# EAGLE library part EEPROM (library MOTO_LIB)
I2C EE PROM, 8 pin
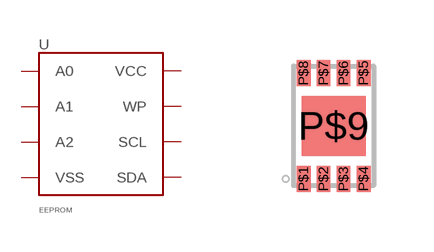
[diagram p10: symbol with the pads of DFN-8; footprint DFN-8]

Designator prefix -

## EEPROMDFN8 (MPN: BR24G16NUX-3; SUPPLIER: ROHM)  [DFN-8]
P$1  A0  in
P$2  A1  in
P$3  A2  in
P$4  VSS  pwr
P$5  SDA
P$6  SCL  in
P$7  WP  in
P$8  VCC  pwr
P$9  VSS  pwr

## Footprint DFN-8 (pad centres in mm)
Now follows http://pdfserv.maximintegrated.com/land_patterns/90-0065.PDF Pasted was reduced by 40% width on the center ground pad, and some amount on the other 8. Stop mask extends 135 µm wider than the pad to hit dead center of what IPC-7351 recommends.
smd 0.35 x 0.65: P$1 -0.75,-1.325; P$2 -0.25,-1.325; P$3 0.25,-1.325; P$4 0.75,-1.325; P$5 0.75,1.325; P$6 0.25,1.325; P$7 -0.25,1.325; P$8 -0.75,1.325
smd 1.6 x 1.5: P$9 0,0